# EAGLE library part 5-2301994-1 (library Modular Jacks)
CONN MAGJACK 1PORT 100 BASE-T Manufacturer's datasheet <https://www.te.com/commerce/DocumentDelivery/DDEController?Action=srchrtrv&DocNm=5-2301994-1&DocType=Customer+Drawing&DocLang=English>
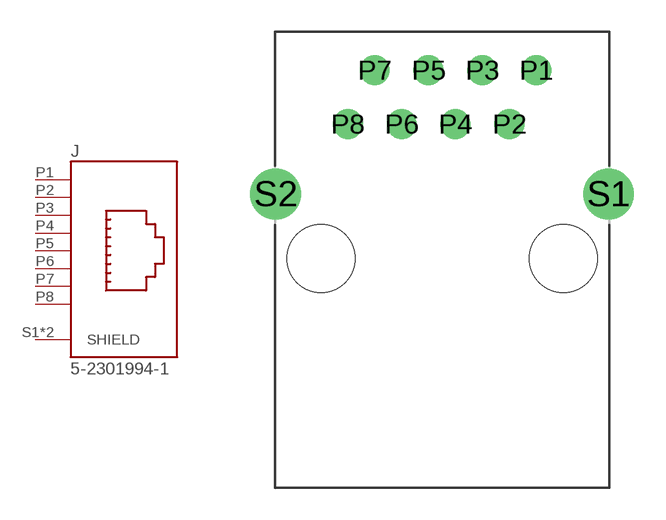
[diagram p1: symbol with the pads of 5-2301994-1; footprint 5-2301994-1]

Designator prefix J

## 5-2301994-1 (CREATED_BY: PCBLayout.com; DIGIKEY_PN: A126250-ND; MANUFACTURER: TE Connectivity AMP Connectors; MPN: 5-2301994-1)  [5-2301994-1]
P1  P1  pas
P2  P2  pas
P3  P3  pas
P4  P4  pas
P5  P5  pas
P6  P6  pas
P7  P7  pas
P8  P8  pas
S1  SHIELD  pwr
S2  SHIELD  pwr

## Footprint 5-2301994-1 (pad centres in mm)
drill 0.9: P1 4.445,0; P2 3.175,-2.54; P3 1.905,0; P4 0.635,-2.54; P5 -0.635,0; P6 -1.905,-2.54; P7 -3.175,0; P8 -4.445,-2.54
drill 1.6: S1 7.85,-5.84; S2 -7.85,-5.84
hole 3.2 at -5.715,-8.89
hole 3.2 at 5.715,-8.89